# Altium schematic symbol library TPS62203DBVR.Schlib: 1 symbol
Pins are listed as number, name and electrical type; pins without a type are passive.

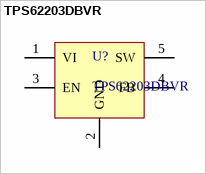
[diagram p0: symbol TPS62203DBVR]

## TPS62203DBVR
designator U?
IC REG BUCK 3.3V 300MA SOT23-5
pins: 1 VI, 2 GND, 3 EN, 4 FB, 5 SW